# EAGLE library part NOKIA_LCD_6610 (library nokia_lcd6610)
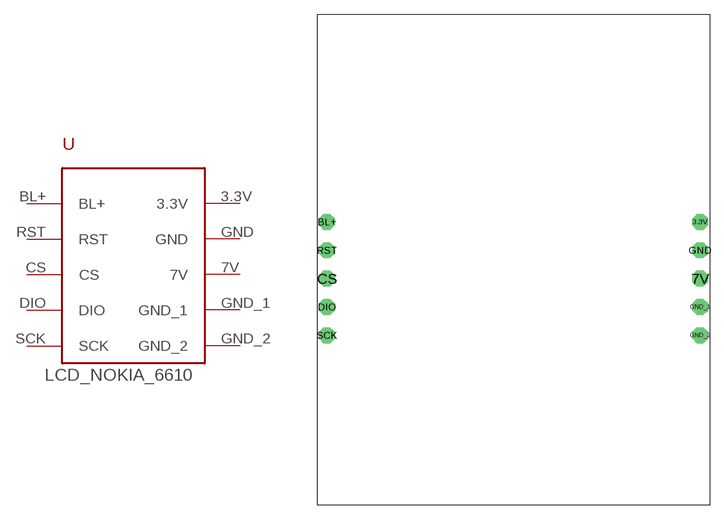
[diagram p0: symbol with the pads of LCD_NOKIA_6610; footprint LCD_NOKIA_6610]

Designator prefix -

## NOKIA_LCD_6610  [LCD_NOKIA_6610]
3.3V  3.3V
7V  7V
BL+  BL+  in
CS  CS
DIO  DIO
GND  GND
GND_1  GND_1
GND_2  GND_2
RST  RST
SCK  SCK

## Footprint LCD_NOKIA_6610 (pad centres in mm)
drill 1 pad 1.676 octagon: 3.3V 0,6; 7V 0,0; BL+ -39.5,6; CS -39.5,0; DIO -39.5,-3; GND 0,3; GND_1 0,-3; GND_2 0,-6; RST -39.5,3; SCK -39.5,-6